# Altium schematic symbol library distance_sensor.SchLib: 17 symbols
Pins are listed as number, name and electrical type; pins without a type are passive.

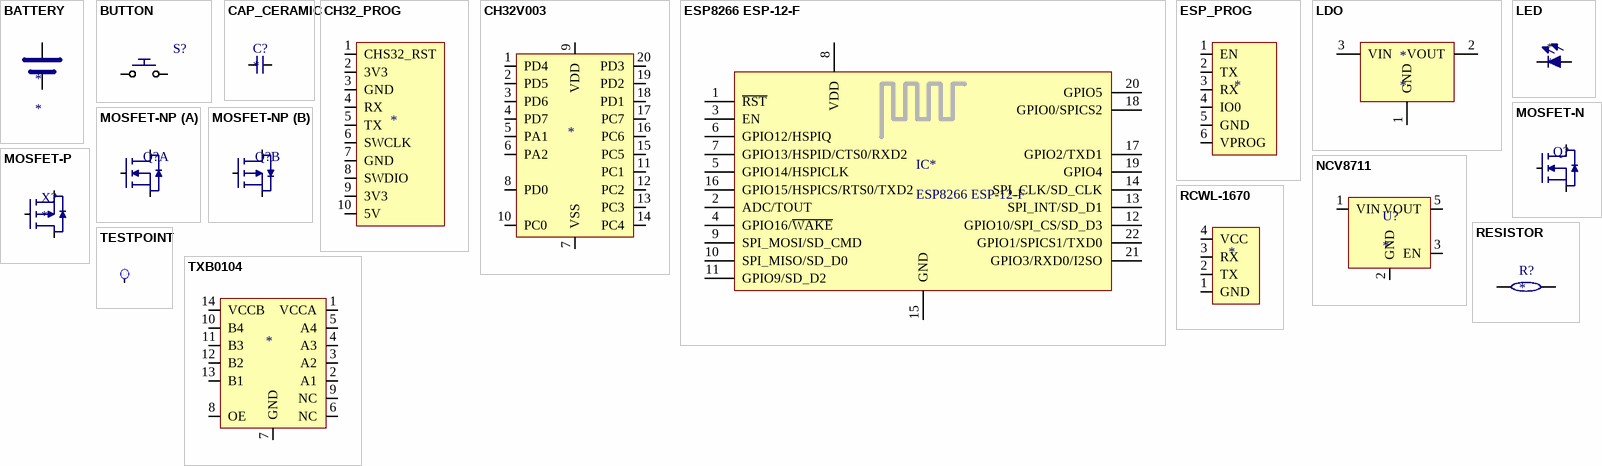
[diagram p0: symbols BATTERY to TXB0104]

## BATTERY
designator *  (no BOM)
footprint 2X0.1HEADER (2 x 0.1 inch header)
pins: VNEG - (power), VPOS + (power)

## BUTTON
designator S?, comment 4-1437565-1  (value not drawn)
6x6mm SMD tactile switch,SPST-NO; Manufacturer_Name: TE Connectivity; Allied_Number: R1117787; RS Part Number: 1616046; Manufacturer_Part_Number: 4-1437565-1; Datasheet Link: http://uk.rs-online.com/web/p/products/1616046
footprint FSM-SWITCH
pins: 1, 2

## CAP_CERAMIC
designator C?
MLCC; Value: *; LCSC Part Number: *; Tolerance: *; Voltage: *; Package: *; Dielectric: *
footprint CAP 0402_1005 (Chip Capacitor, 2-Leads, Body 1.02x0.51mm, IPC Medium Density)
footprint CAP 0805_2012 (Chip Capacitor, 2-Leads, Body 2.00x1.20mm, IPC Medium Density)
footprint CAP 0603_1608 (Chip Capacitor, 2-Leads, Body 1.60x0.80mm, IPC Medium Density)
footprint CAP 1210_3225 (Chip Capacitor, 2-Leads, Body 3.20x1.60mm, IPC High Density)
pins: 1 A, 2 B

## CH32_PROG
designator *  (value not drawn)  (no BOM)
footprint CH32_PROG
pins: 1 CHS32_RST, 2 3V3, 3 GND, 4 RX, 5 TX, 6 SWCLK, 7 GND, 8 SWDIO, 9 3V3, 10 5V

## CH32V003
designator *  (value not drawn)
footprint TSOP20-127P600-8N (TSOP-20)
pins: 1 PD4, 2 PD5, 3 PD6, 4 PD7, 5 PA1, 6 PA2, 7 VSS, 8 PD0, 9 VDD, 10 PC0, 11 PC1, 12 PC2, 13 PC3, 14 PC4, 15 PC5, 16 PC6, 17 PC7, 18 PD1, 19 PD2, 20 PD3

## ESP8266 ESP-12-F
designator IC*
footprint ESP8266 ESP-12-E
pins: 1 ~{RST} "Reset", 2 ADC/TOUT "ADC Input Or TOUT Output", 3 EN "Chip enable", 4 GPIO16/~{WAKE} "GPIO16 or Deep-Sleep Wakeup", 5 GPIO14/HSPICLK "GPIO14 or SPI CLK", 6 GPIO12/HSPIQ "GPIO12 or SPIQ", 7 GPIO13/HSPID/CTS0/RXD2 "GPIO13 or SPID", 8 VDD "Power supply", 9 SPI_MOSI/SD_CMD "GPIO14 or SPI CLK", 10 SPI_MISO/SD_D0 "GPIO12 or SPIQ", 11 GPIO9/SD_D2 "GPIO13 or SPID", 12 GPIO10/SPI_CS/SD_D3 "GPIO15 or SPICS", 13 SPI_INT/SD_D1 "GPIO2 or TX", 14 SPI_CLK/SD_CLK "GPIO0 or SPICS2", 15 GND "Power ground", 16 GPIO15/HSPICS/RTS0/TXD2 "GPIO15 or SPICS", 17 GPIO2/TXD1 "GPIO2 or TX", 18 GPIO0/SPICS2 "GPIO0 or SPICS2", 19 GPIO4 "GPIO5", 20 GPIO5 "GPIO4", 21 GPIO3/RXD0/I2SO "GPIO3 or UART RXD or I2SO", 22 GPIO1/SPICS1/TXD0 "GPIO1 or UART TXD"

## ESP_PROG
designator *  (value not drawn)  (no BOM)
footprint ESP_PROG
pins: 1 EN, 2 TX, 3 RX, 4 IO0, 5 GND, 6 VPROG

## LDO
designator *
LDO SOT23; Manufacturer Part Number: *; LCSC Part Number: *
footprint SOT95P230X110-3L (SOT23, 3-Leads, Body 2.90x2.30mm, Pitch 0.95mm, IPC High Density)
pins: 1 GND (power), 2 VOUT (power), 3 VIN (power)

## LED
designator *
LED; Value: *; LCSC Part Number: *
footprint SMT_LED 0402_BLUE (Chip Diode, 2-Leads, Body 1.00x0.50mm, IPC Medium Density)
footprint SMT_LED 0402_ORANGE (Chip Diode, 2-Leads, Body 1.00x0.50mm, IPC Medium Density)
footprint SMT_LED 0603_RED (Chip Diode, 2-Leads, Body 1.60x0.80mm, IPC Medium Density)
pins: 1 CATHODE "TP", 2 ANODE "TP"

## MOSFET-N
designator Q?  (value not drawn)
N Channel MOSFET. 300mA
footprint SOT95P230X110-3L (SOT23, 3-Leads, Body 2.90x2.30mm, Pitch 0.95mm, IPC High Density)
pins: 1 G, 2 S, 3 D

## MOSFET-NP
designator Q?  (value not drawn)
N/P Channel MOSFET; Manufacturer Part Number: DMC2400UV-13; LCSC Part Number: C500791
footprint SOT563 (SOTFL, 6-Leads, Body 1.60x1.63mm, Pitch 0.50mm, IPC High Density)
footprint DMG6601LVT; pin to pad D1>6 D2>4 G1>1 G2>3 S1>5 S2>2
part A pins: D1 D, G1 G, S1 S
part B pins: D2 D, G2 G, S2 S

## MOSFET-P
designator X?
P Channel MOSFET. 300mA; Manufacturer Part Number: DMP3099L-13; LCSC Part Number: C412516
footprint SOT95P230X110-3L (SOT23, 3-Leads, Body 2.90x2.30mm, Pitch 0.95mm, IPC High Density)
pins: 1 G, 2 S, 3 D

## NCV8711
designator U?
3.3v LDO; Manufacturer Part Number: MC33375ST−3.3T3G
footprint SOT23-5 (SOT23, 5-Leads, Body 3.00x2.75mm, Pitch 0.95mm, IPC Medium Density)
pins: 1 VIN, 2 GND, 3 EN, 5 VOUT

## RCWL-1670
designator *  (value not drawn)
footprint RCWL-1670 (4 pin header for distance sensor)
footprint JST_PH_4WAY
pins: 1 GND, 2 TX, 3 RX, 4 VCC

## RESISTOR
designator R?
Resistor; Value: *; LCSC Part Number: *; Tolerance: *; Package: *; Power: *
footprint RES 0402_1005 (Chip Resistor, 2-Leads, Body 1.0x0.5mm, IPC Medium Density)
footprint RES 0603_1608 (Chip Resistor, 2-Leads, Body 1.60x0.80mm, IPC Medium Density)
pins: 1 A, 2 B

## TESTPOINT
designator TP?  (value not drawn)  (no BOM)
TestID: ???
footprint TESTPOINT
footprint TESTPAD
footprint TESTPOINT_SMALL
pins: 1 TP

## TXB0104
designator *  (value not drawn)
footprint TSOP14-127P600-8N (TSOP 14)
pins: 1 VCCA, 2 A1, 3 A2, 4 A3, 5 A4, 6 NC, 7 GND, 8 OE, 9 NC, 10 B4, 11 B3, 12 B2, 13 B1, 14 VCCB